# Altium footprint library PcbLib1.PcbLib: 16 footprints
Each footprint in its own frame and in the unit in brackets; x right, y up, seen from the top. Pads: shape width x height; smd on the part's side, far side on the other; paste and mask are expansions set on the pad; w line width, h text height; cw(c..) or ccw(c..) is an arc to the next point about the centre after c.
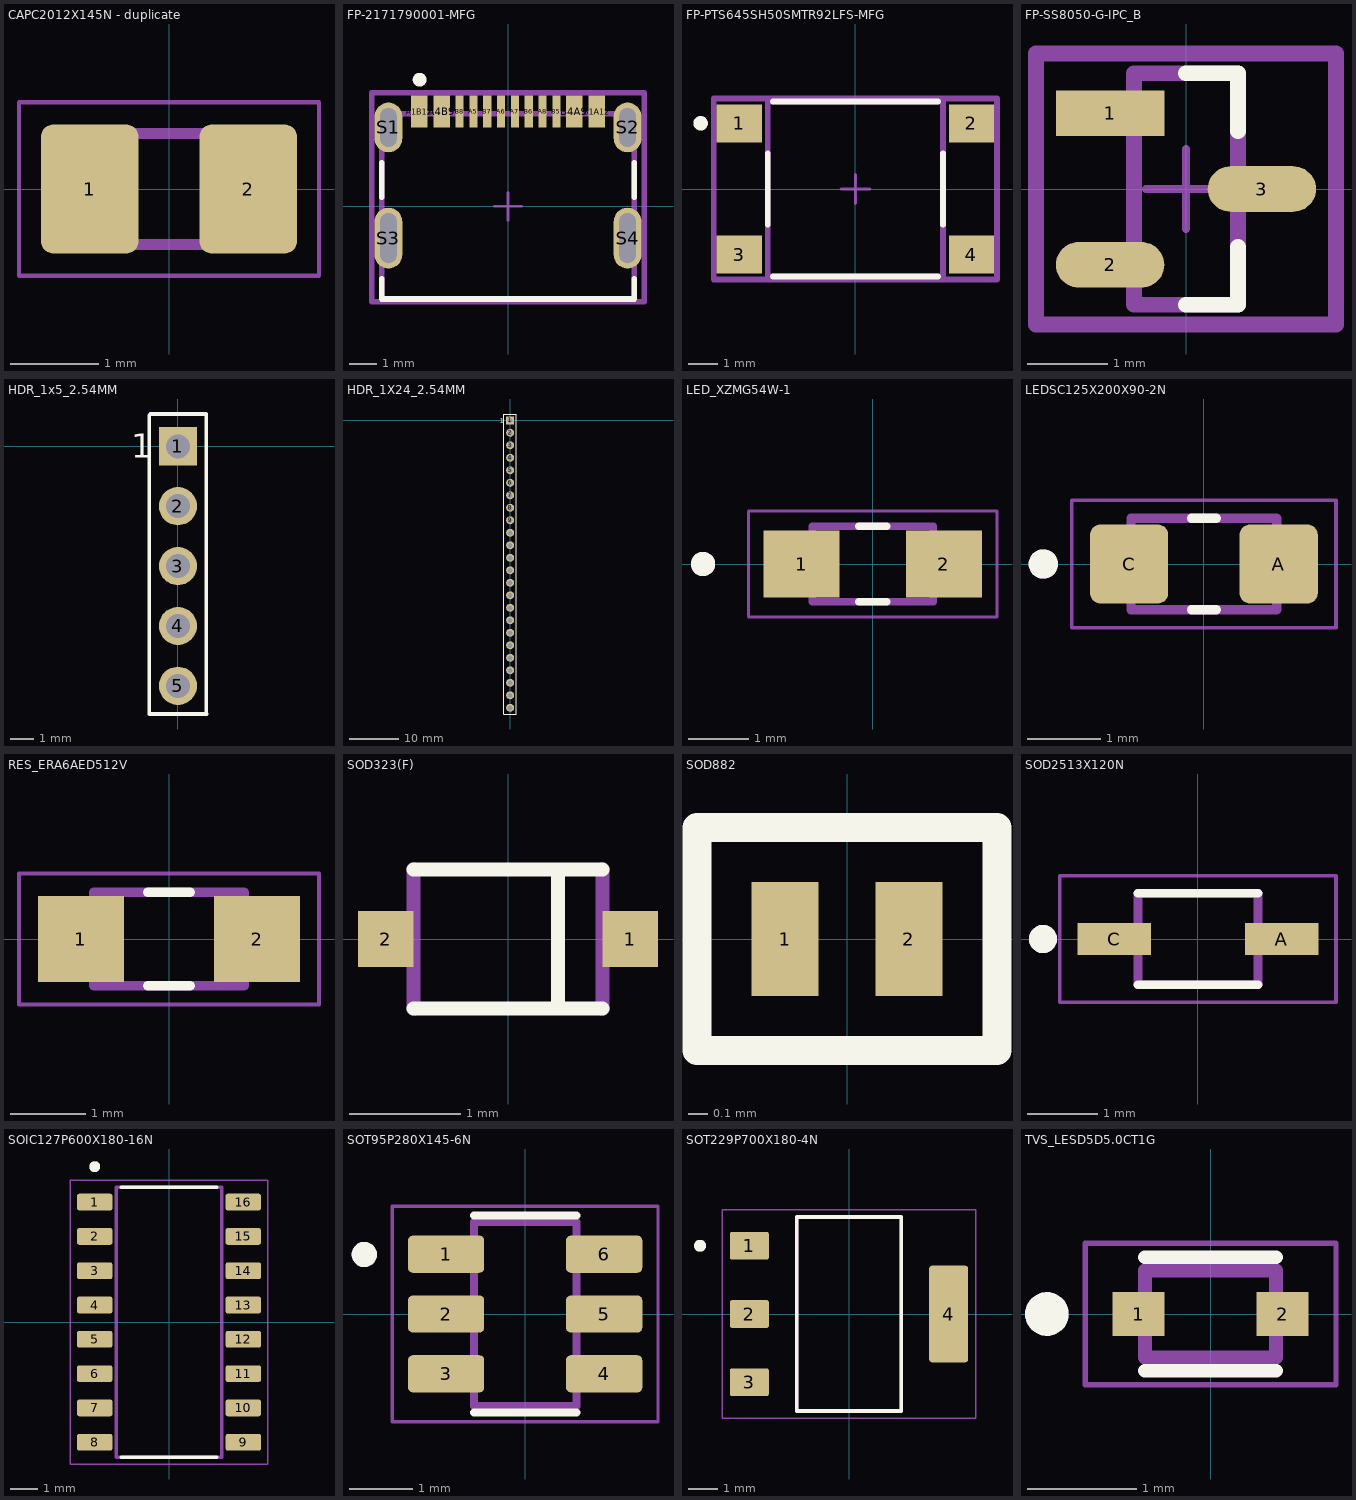
[diagram p0: the footprints below, top view; thin cyan lines are the x and y axes]

## CAPC2012X145N - duplicate [mm]
pads (2):
  rrect25% 1.11x1.47 smd: 1(-0.9,0) 2(0.9,0)
Mechanical 13:
  lines w0.127: -1,-0.63 -1,0.63 1,0.63 1,-0.63 -1,-0.63
Mechanical 15:
  lines w0.05: -1.705,-0.985 -1.705,0.985 1.705,0.985 1.705,-0.985 -1.705,-0.985
3D body "step_temp.STEP": height 1.45, standoff 0, extent -1,-0.625 1,0.625

## FP-2171790001-MFG [mm]
pads (16):
  rect 0.6x1.15 smd paste+0 mask+0: A1B12(-3.2,3.425) A4B9(-2.4,3.425) B1A12(3.2,3.425) B4A9(2.4,3.425)
  rect 0.3x1.15 smd paste+0 mask+0: A5(-1.25,3.425) A6(-0.25,3.425) A7(0.25,3.425) A8(1.25,3.425) B5(1.75,3.425) B6(0.75,3.425) B7(-0.75,3.425) B8(-1.75,3.425)
  rrect100% 1x1.8 hole 1.4 slot 0.6 at 0 deg paste-2539.97 mask+0: S1(-4.32,2.85) S2(4.32,2.85)
  rrect100% 1x2.2 hole 1.8 slot 0.6 at 0 deg paste-2539.97 mask+0: S3(-4.32,-1.15) S4(4.32,-1.15)
Top Overlay:
  circle w0.25: c-3.195,4.575 r0.125
  lines w0.2: -4.57,-2.625 -4.57,-3.35 4.57,-3.35 4.57,-2.625 ; -4.57,0.325 -4.57,1.575 ; 4.57,0.325 4.57,1.575
Top 3D Body:
  lines w0.2: -4.57,-3.35 -4.57,3.35 4.57,3.35 4.57,-3.35 -4.57,-3.35
Top Courtyard:
  lines w0.2: -4.92,-3.45 -4.92,4.1 4.92,4.1 4.92,-3.45 -4.92,-3.45
Top Assembly:
  lines w0.2: -4.92,-3.45 -4.92,4.1 4.92,4.1 4.92,-3.45 -4.92,-3.45
  text ".Designator" at 0,0.513 h1
Top Component Center:
  lines w0.1: -0.5,0 0.5,0 ; 0,-0.5 0,0.5
3D body "Conn_Molex_2171790001_eec.STEP": height 0.25, standoff 0, extent -4.92,-3.45 4.92,4.1

## FP-PTS645SH50SMTR92LFS-MFG [mm]
pads (4):
  rect 1.55x1.3 smd paste+0 mask+0: 1(-3.975,2.25) 2(3.975,2.25) 3(-3.975,-2.25) 4(3.975,-2.25)
Top Overlay:
  circle w0.25: c-5.3,2.25 r0.125
  lines w0.2: -3,-1.225 -3,1.225 ; -2.825,-3 2.825,-3 ; -2.825,3 2.825,3 ; 3,-1.225 3,1.225
Top 3D Body:
  lines w0.2: -3,-3 -3,3 3,3 3,-3 -3,-3
Top Courtyard:
  lines w0.2: -4.85,-3.1 -4.85,3.1 4.85,3.1 4.85,-3.1 -4.85,-3.1
Top Assembly:
  lines w0.2: -4.85,-3.1 -4.85,3.1 4.85,3.1 4.85,-3.1 -4.85,-3.1
  text ".Designator" at 0,0.188 h1
Top Component Center:
  lines w0.1: -0.5,0 0.5,0 ; 0,-0.5 0,0.5
3D body "User Library-PTS645SL43SMTR92-LFS.STEP": height 4.3, standoff 0, extent -4.5,-3 4.5,3

## FP-SS8050-G-IPC_B [mm]
pads (3):
  rect 1.357x0.572 smd paste+0 mask+0: 1(-0.951,0.95)
  rrect100% 1.357x0.572 smd paste+0 mask+0: 2(-0.951,-0.95) 3(0.951,0)
Top Overlay:
  lines w0.2: 0,-1.45 0.65,-1.45 0.65,-0.725 ; 0,1.45 0.65,1.45 0.65,0.725
Top 3D Body:
  lines w0.2: -0.65,-1.45 0.65,-1.45 0.65,1.45 -0.65,1.45 -0.65,-1.45
Top Courtyard:
  lines w0.2: -1.879,-1.7 1.879,-1.7 1.879,1.7 -1.879,1.7 -1.879,-1.7
Top Assembly:
  lines w0.2: -1.879,-1.7 1.879,-1.7 1.879,1.7 -1.879,1.7 -1.879,-1.7
  text ".Designator" at 0,-0.001 h1
Top Component Center:
  lines w0.1: -0.5,0 0.5,0 ; 0,-0.5 0,0.5
3D body "Trans_Comchip_SS8050-G_eec.STEP": height 0.25, standoff 0, extent -1.879,-1.7 1.879,1.7

## HDR_1x5_2.54MM [mil]
pads (5):
  rect 64x64 hole 40: 1(0,0)
  round 64 hole 40: 2(0,-100) 3(0,-200) 4(0,-300) 5(0,-400)
Top Overlay:
  lines w6: -48,52 -48,-447 48,-447 ; -46,54 47,54 47,-447
  text "1" at -78,-19 h40
3D body "0022032051.stp": height 425.5, standoff -134.5, extent -43.5,-439 49.5,51

## HDR_1X24_2.54MM [mil]
pads (24):
  rect 64x64 hole 40: 1(0,0)
  round 64 hole 40: 2(0,-100) 3(0,-200) 4(0,-300) 5(0,-400) 6(0,-500) 7(0,-600) 8(0,-700) 9(0,-800) 10(0,-900) 11(0,-1000) 12(0,-1100) 13(0,-1200) 14(0,-1300) 15(0,-1400) 16(0,-1500) 17(0,-1600) 18(0,-1700) 19(0,-1800) 20(0,-1900) 21(0,-2000) 22(0,-2100) 23(0,-2200) 24(0,-2300)
Top Overlay:
  lines w10: -50,-2350 -50,50 50,50 50,-2350 -50,-2350
  text "1" at -84,-23 h40
3D body "022284245.stp": height 385.5, standoff -119.5, extent -49,-2350 49,50

## LED_XZMG54W-1 [mm]
height 0.75
pads (2):
  rect 1.25x1.1 smd: 1(-1.175,0) 2(1.175,0)
Top Overlay:
  circle w0.2: c-2.8,0 r0.1
  lines w0.127: -0.23,-0.625 0.23,-0.625 ; -0.23,0.625 0.23,0.625
Mechanical 13:
  circle w0.2: c-2.8,0 r0.1
  lines w0.127: -1,-0.625 -1,0.625 1,0.625 1,-0.625 -1,-0.625
Mechanical 15:
  lines w0.05: -2.05,-0.875 -2.05,0.875 2.05,0.875 2.05,-0.875 -2.05,-0.875
3D body "step_temp.STEP": height 0.75, standoff 0, extent -1,-0.625 1,0.625

## LEDSC125X200X90-2N [mm]
height 0.9
pads (2):
  rrect25% 1.07x1.08 smd: A(1.025,0) C(-1.025,0)
Top Overlay:
  circle w0.2: c-2.2,0 r0.1
  lines w0.127: -0.17,-0.625 0.17,-0.625 ; -0.17,0.625 0.17,0.625
Mechanical 13:
  circle w0.2: c-2.2,0 r0.1
  lines w0.127: -1,-0.625 1,-0.625 1,0.625 -1,0.625 -1,-0.625
Mechanical 15:
  lines w0.05: -1.81,-0.875 -1.81,0.875 1.81,0.875 1.81,-0.875 -1.81,-0.875
3D body "step_temp.STEP": height 0.7, standoff 0, extent -1,-0.625 1,0.625

## RES_ERA6AED512V [mm]
pads (2):
  rect 1.15x1.15 smd: 1(-1.175,0) 2(1.175,0)
Top Overlay:
  lines w0.127: -0.28,-0.625 0.28,-0.625 ; -0.28,0.625 0.28,0.625
Mechanical 13:
  lines w0.127: -1,-0.625 -1,0.625 1,0.625 1,-0.625 -1,-0.625
Mechanical 15:
  lines w0.05: -2,-0.875 -2,0.875 2,0.875 2,-0.875 -2,-0.875
3D body "step_temp.STEP": height 0.6, standoff 0, extent -1,-0.625 1,0.625

## SOD323(F) [mm]
pads (2):
  rect 0.5x0.5 smd: 1(1.1,0) 2(-1.1,0)
Top Overlay:
  lines w0.127: -0.85,-0.625 0.45,-0.625 ; -0.85,0.625 0.45,0.625 ; 0.85,-0.625 0.45,-0.625 ; 0.85,0.625 0.45,0.625 ; 0.45,-0.625 0.45,0.625
Mechanical 13:
  region: 1.25,-0.15 0.851,-0.15 0.851,0.15 1.25,0.15
  region: -0.85,-0.15 -1.251,-0.15 -1.251,0.15 -0.85,0.15
  lines w0.127: -0.85,-0.625 -0.85,0.625 ; 0.85,-0.625 0.85,0.625
3D body "step_temp.STEP": height 1.15, standoff 0, extent -1.338,-0.65 1.338,0.65

## SOD882 [mm]
pads (2):
  rect 0.35x0.6 smd: 1(-0.325,0) 2(0.325,0)
Top Overlay:
  lines w0.152: -0.787,-0.584 0.787,-0.584 0.787,0.584 -0.787,0.584 -0.787,-0.584
3D body "AQ3045-01ETG.stp": height 0.44, standoff 0.01, extent -0.535,-0.335 0.535,0.34

## SOD2513X120N [mm]
height 1.2
pads (2):
  rect 1.04x0.46 smd paste+0 mask+0.102: A(1.19,0) C(-1.19,0)
Top Overlay:
  circle w0.2: c-2.2,0 r0.1
  lines w0.127: -0.85,-0.65 0.85,-0.65 ; -0.85,0.65 0.85,0.65
Mechanical 13:
  circle w0.2: c-2.2,0 r0.1
  lines w0.127: -0.85,-0.65 0.85,-0.65 0.85,0.65 -0.85,0.65 -0.85,-0.65
Mechanical 15:
  lines w0.05: -1.96,-0.9 1.96,-0.9 1.96,0.9 -1.96,0.9 -1.96,-0.9
3D body "step_temp.STEP": height 1.1, standoff -0.5, extent 0,-1.1 3.8,-0.1

## SOIC127P600X180-16N [mm]
height 1.8
pads (16):
  rrect25% 1.31x0.62 smd: 1(-2.75,4.445) 2(-2.75,3.175) 3(-2.75,1.905) 4(-2.75,0.635) 5(-2.75,-0.635) 6(-2.75,-1.905) 7(-2.75,-3.175) 8(-2.75,-4.445) 9(2.75,-4.445) 10(2.75,-3.175) 11(2.75,-1.905) 12(2.75,-0.635) 13(2.75,0.635) 14(2.75,1.905) 15(2.75,3.175) 16(2.75,4.445)
Top Overlay:
  circle w0.2: c-2.75,5.755 r0.1
  lines w0.127: -1.775,-5 1.775,-5 -1.775,-5 ; -1.775,5 1.775,5 -1.775,5
Mechanical 13:
  circle w0.2: c-2.75,5.755 r0.1
  lines w0.127: -1.95,-5 -1.95,5 1.95,5 1.95,-5 -1.95,-5
Mechanical 15:
  lines w0.05: -3.655,-5.25 3.655,-5.25 3.655,5.25 -3.655,5.25 -3.655,-5.25
3D body "step_temp.STEP": height 1.8, standoff 0, extent -3,-5 3,5

## SOT95P280X145-6N [mm]
pads (6):
  rrect25% 1.21x0.59 smd: 1(-1.255,0.95) 2(-1.255,0) 3(-1.255,-0.95) 4(1.255,-0.95) 5(1.255,0) 6(1.255,0.95)
Top Overlay:
  circle w0.2: c-2.555,0.945 r0.1
  lines w0.127: -0.813,-1.565 0.813,-1.565 ; -0.813,1.565 0.813,1.565
Mechanical 13:
  circle w0.2: c-2.555,0.945 r0.1
  lines w0.127: -0.813,-1.462 0.813,-1.462 0.813,1.462 -0.813,1.462 -0.813,-1.462
Mechanical 15:
  lines w0.05: -2.11,-1.713 -2.11,1.713 2.11,1.713 2.11,-1.713 -2.11,-1.713
3D body "step_temp.STEP": height 0.4, standoff -1.05, extent -1.4,-1.462 1.4,1.462

## SOT229P700X180-4N [mm]
height 1.8
pads (4):
  rrect15% 1.31x0.93 smd: 1(-3.345,2.29) 2(-3.345,0) 3(-3.345,-2.29)
  rrect15% 1.31x3.24 smd: 4(3.345,0)
Top Overlay:
  circle w0.2: c-5,2.29 r0.1
  lines w0.127: -1.753,-3.253 1.753,-3.253 1.753,3.253 -1.753,3.253 -1.753,-3.253
Mechanical 13:
  circle w0.2: c-5,2.29 r0.1
  lines w0.127: -1.753,-3.253 1.753,-3.253 1.753,3.253 -1.753,3.253 -1.753,-3.253
Mechanical 15:
  lines w0.05: -4.25,-3.502 -4.25,3.502 4.25,3.502 4.25,-3.502 -4.25,-3.502
3D body "step_temp.STEP": height 1.8, standoff 0, extent -3.499,-3.251 3.499,3.251

## TVS_LESD5D5.0CT1G [mm]
height 0.7
pads (2):
  rect 0.48x0.4 smd: 1(-0.66,0) 2(0.66,0)
Top Overlay:
  circle w0.2: c-1.5,0 r0.1
  lines w0.127: -0.6,-0.52 0.6,-0.52 ; -0.6,0.52 0.6,0.52
Mechanical 13:
  circle w0.2: c-1.5,0 r0.1
  lines w0.127: -0.6,-0.4 0.6,-0.4 0.6,0.4 -0.6,0.4 -0.6,-0.4
Mechanical 15:
  lines w0.05: -1.15,-0.65 -1.15,0.65 1.15,0.65 1.15,-0.65 -1.15,-0.65
3D body "step_temp.STEP": height 0.7, standoff 0, extent -0.8,-0.4 0.8,0.4